# Altium footprint library ESC.PcbLib: 51 footprints (part 4 of 4)
Each footprint in its own frame and in the unit in brackets; x right, y up, seen from the top. Pads: shape width x height; smd on the part's side, far side on the other; paste and mask are expansions set on the pad; w line width, h text height; cw(c..) or ccw(c..) is an arc to the next point about the centre after c.
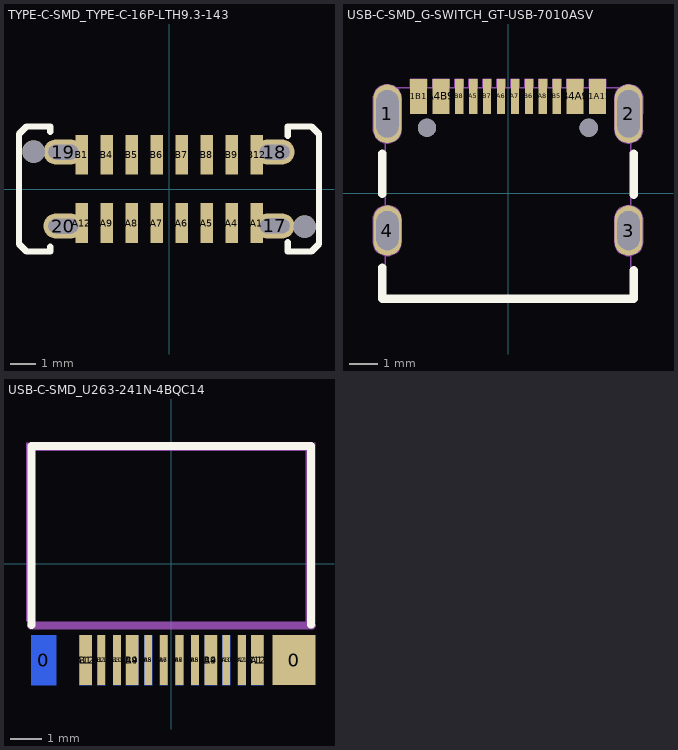
[diagram p3: the footprints below, top view; thin cyan lines are the x and y axes]

## TYPE-C-SMD_TYPE-C-16P-LTH9.3-143 [mm] "SMD"
pads (22):
  oval 1.6x1 hole 0.6 slot 1.2 at 0 deg paste-2539.97 mask+0.051: 17(4.225,-1.48) 18(4.225,1.48) 19(-4.225,1.48) 20(-4.225,-1.48)
  rect 0.5x1.59 smd paste-100 mask+0.051: A1(3.5,-1.365) A4(2.5,-1.365) A5(1.5,-1.365) A6(0.5,-1.365) A7(-0.5,-1.365) A8(-1.5,-1.365) A9(-2.5,-1.365) A12(-3.5,-1.365) B1(-3.5,1.365) B4(-2.5,1.365) B5(-1.5,1.365) B6(-0.5,1.365) B7(0.5,1.365) B8(1.5,1.365) B9(2.5,1.365) B12(3.5,1.365)
  round 0.9 hole 0.9 unplated paste-2539.97 mask+0.102: ""(-5.42,1.5) ""(5.42,-1.5)
Top Overlay:
  lines w0.254: -4.75,-2.306 -4.75,-2.5 -5.7,-2.5 -6,-2.2 -6,2.2 -5.7,2.5 -4.75,2.5 -4.75,2.291 ; 4.75,-2.126 4.75,-2.5 5.7,-2.5 6,-2.2 6,2.2 5.7,2.5 4.75,2.5 4.75,2.125
Top Paste:
  drawing of 16 lines, arcs and shapes, not listed
Mechanical 15:
  circle w0.4: c5.42,-1.5 r0.2
  circle w0.4: c-5.42,1.5 r0.2

## USB-C-SMD_G-SWITCH_GT-USB-7010ASV [mm] "CONN RCPT USB 2.0 Type-C 16POS SMD R/A"
height 2.6
pads (18):
  oval 1x2.1 hole 0.8 slot 1.7 at 90 deg paste-2539.97 mask+0.05: 1(-4.32,2.849) 2(4.32,2.849)
  oval 1x1.8 hole 0.8 slot 1.4 at 90 deg paste-2539.97 mask+0.05: 3(4.32,-1.332) 4(-4.32,-1.332)
  rect 0.6x1.24 smd paste+0 mask+0.05: A1B12(-3.2,3.469) A4B9(-2.4,3.469) B1A12(3.2,3.469) B4A9(2.4,3.469)
  rect 0.3x1.24 smd paste+0 mask+0.05: A5(-1.25,3.469) A6(-0.25,3.469) A7(0.25,3.469) A8(1.25,3.469) B5(1.75,3.469) B6(0.75,3.469) B7(-0.75,3.469) B8(-1.75,3.469)
  round 0.65 hole 0.65 unplated paste-2539.97: ""(-2.9,2.349) ""(2.89,2.349)
Top Overlay:
  lines w0.3: -4.502,-0.022 -4.5,1.429 ; -4.5,-2.652 -4.5,-3.775 4.5,-3.775 4.5,-2.755 ; 4.5,-0.044 4.507,1.428
Top Paste:
  drawing of 16 lines, arcs and shapes, not listed
Mechanical 2:
  lines w0.05: -4.819,-1.757 ccw(c-4.32,-1.732) -3.821,-1.757 ; -4.82,-1.744 -4.82,-0.82 ; -4.819,2.274 -4.82,3.485 ; -4.818,2.261 ccw(c-4.32,2.299) -3.824,2.236 ; -4.812,3.485 cw(c-4.32,3.399) -3.824,3.461 ; -4.807,-0.82 cw(c-4.32,-0.932) -3.821,-0.907 ; -3.828,2.212 -3.82,3.461 ; -3.824,-0.869 -3.82,-1.744 ; -3.5,3.8 -3.5,4.088 -2.9,4.088 -2.9,3.8 ; -2.7,3.8 -2.7,4.088 -2.1,4.088 -2.1,3.8 ; -1.9,3.8 -1.9,4.088 -1.6,4.088 -1.6,3.8 ; -1.4,3.8 -1.4,4.088 -1.1,4.088 -1.1,3.8 ; -0.9,3.8 -0.9,4.088 -0.6,4.088 -0.6,3.8 ; -0.4,3.8 -0.4,4.088 -0.1,4.088 -0.1,3.8 ; 0.1,3.8 0.1,4.088 0.4,4.088 0.4,3.8 ; 0.6,3.8 0.6,4.088 0.9,4.088 0.9,3.8 ; 1.1,3.8 1.1,4.088 1.4,4.088 1.4,3.8 ; 1.6,3.8 1.6,4.088 1.9,4.088 1.9,3.8 ; 2.1,3.8 2.1,4.088 2.7,4.088 2.7,3.8 ; 2.9,3.8 2.9,4.088 3.5,4.088 3.5,3.8 ; 3.821,-1.757 ccw(c4.32,-1.732) 4.819,-1.757 ; 3.82,-1.744 3.82,-0.82 ; 3.821,2.274 3.82,3.485 ; 3.822,2.261 ccw(c4.32,2.299) 4.816,2.236 ; 3.828,3.485 cw(c4.32,3.399) 4.816,3.461 ; 3.833,-0.82 cw(c4.32,-0.932) 4.819,-0.907 ; 4.812,2.212 4.82,3.461 ; 4.816,-0.869 4.82,-1.744 ; -4.395,-3.775 4.395,-3.775 4.395,3.775 -4.395,3.775 -4.395,-3.775
Mechanical 15:
  circle w0.25: c2.89,2.349 r0.125
  circle w0.25: c-2.9,2.349 r0.125
3D body "629722000214.stp": height 3.28, standoff -0.88, extent -4.79,-3.895 4.79,3.815

## USB-C-SMD_U263-241N-4BQC14 [mm]
pads (26):
  rect 0.8x1.6 smd far side paste+0 mask+0.05: 0(-4.073,-3.088)
  rect 1.39x1.6 smd paste+0 mask+0.05: 0(3.932,-3.088)
  rect 0.4x1.6 smd paste+0 mask+0.05: A1(2.762,-3.088) A4(1.272,-3.088) A9(-1.249,-3.088) A12(-2.738,-3.088)
  rect 0.25x1.6 smd paste+0 mask+0.05: A2(2.262,-3.088) A3(1.762,-3.088) A5(0.762,-3.088) A6(0.262,-3.088) A7(-0.238,-3.088) A8(-0.738,-3.088) A10(-1.738,-3.088) A11(-2.238,-3.088)
  rect 0.4x1.6 smd far side paste+0 mask+0.05: B1(-2.738,-3.088) B4(-1.248,-3.088) B9(1.272,-3.088) B12(2.762,-3.088)
  rect 0.25x1.6 smd far side paste+0 mask+0.05: B2(-2.238,-3.088) B3(-1.738,-3.088) B5(-0.738,-3.088) B6(-0.238,-3.088) B7(0.262,-3.088) B8(0.761,-3.088) B10(1.761,-3.088) B11(2.262,-3.088)
Top Overlay:
  lines w0.254: -4.471,-1.966 -4.471,3.761 4.461,3.761 ; 4.479,-1.957 4.479,3.761
Mechanical 1:
  lines w0.254: -4.492,-1.976 4.508,-1.976
Mechanical 15:
  region: -4.388,-1.839 -4.388,3.611 4.311,3.611 4.311,-1.889 4.611,-1.889 4.611,3.861 -4.638,3.861 -4.638,-1.839
3D body "XB-U263-24XN-4BQC14.STP": height 1.58, standoff -1.58, extent -4.551,-3.157 4.389,3.643